# Altium schematic symbol library TLE75080ESDXUMA1.SchLib: 2 symbols
Pins are listed as number, name and electrical type; pins without a type are passive.

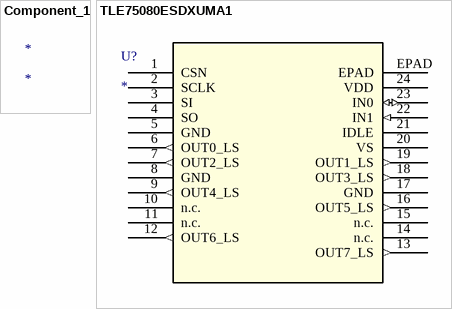
[diagram p0: symbols Component_1 to TLE75080ESDXUMA1]

## Component_1
designator *

## TLE75080ESDXUMA1
designator U?
No Description Available; Mfr_Name: Infineon; RefDes: RefDes; Type: Type
footprint PG-TSDSO-24-21_INF
pins: 1 CSN, 2 SCLK, 3 SI, 4 SO, 5 GND (power), 6 OUT0_LS (out), 7 OUT2_LS (out), 8 GND (power), 9 OUT4_LS (out), 10 n.c., 11 n.c., 12 OUT6_LS (out), 13 OUT7_LS (out), 14 n.c., 15 n.c., 16 OUT5_LS (out), 17 GND (power), 18 OUT3_LS (out), 19 OUT1_LS (out), 20 VS, 21 IDLE, 22 IN1 (in), 23 IN0 (io), 24 VDD (power), EPAD